# Altium footprint library PcbLib1.PcbLib: 9 footprints
Each footprint in its own frame and in the unit in brackets; x right, y up, seen from the top. Pads: shape width x height; smd on the part's side, far side on the other; paste and mask are expansions set on the pad; w line width, h text height; cw(c..) or ccw(c..) is an arc to the next point about the centre after c.
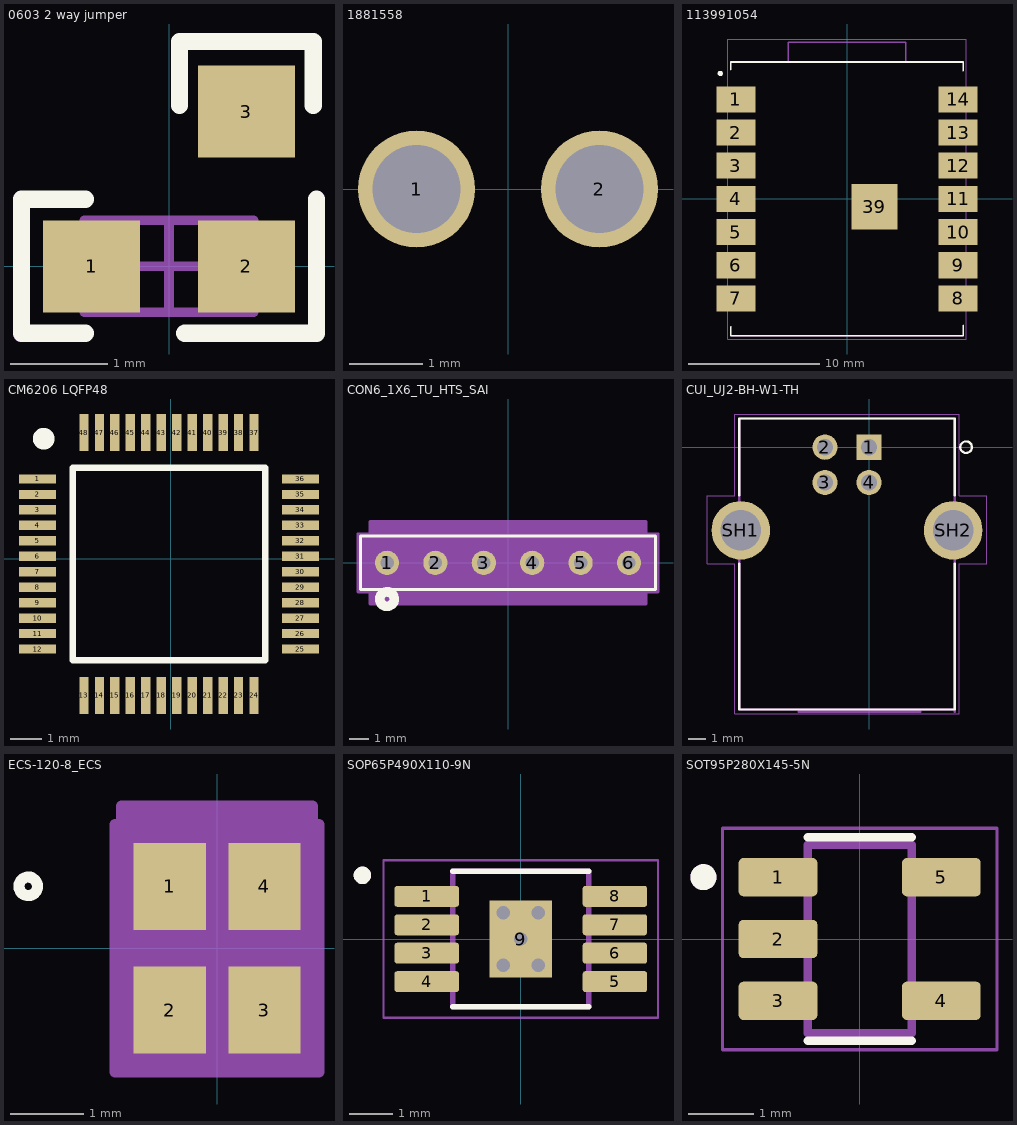
[diagram p0: the footprints below, top view; thin cyan lines are the x and y axes]

## 0603 2 way jumper [mm] "resistor 2 way jumper"
height 0.85
pads (3):
  rect 1x0.95 smd: 1(-0.8,0) 2(0.8,0) 3(0.8,1.6)
Top Overlay:
  lines w0.178: -0.864,-0.691 -1.524,-0.691 -1.524,0.693 -0.864,0.693 ; 0.107,1.664 0.107,2.324 1.491,2.324 1.491,1.664 ; 0.164,-0.691 1.524,-0.691 1.524,0.693
Mechanical 5:
  lines w0.1: -1.55,-0.725 -1.55,0.725 ; 1.55,-0.725 1.55,0.725
  text ".Designator" at -1.397,-0.381 h0.76
Mechanical 13:
  lines w0.1: -0.55,-0.475 -0.55,0.475 ; 0.55,-0.475 0.55,0.475 ; -0.875,-0.475 0.875,-0.475 0.875,0.475 -0.875,0.475 -0.875,-0.475
Mechanical 15:
  lines w0.1: -1.55,-0.725 -1.55,0.725 ; -0.475,0 0.475,0 ; 0,-0.475 0,0.475 ; 1.55,-0.725 1.55,0.725

## 1881558 [mm]
pads (2):
  round 1.6 hole 1.2: 1(-1.25,0) 2(1.25,0)
3D body "1881558.stp": height 10.11, standoff -3.49, extent -3.45,-4.2 3.45,3.9

## 113991054 [mm]
pads (15):
  rect 3x2 smd mask+0.05: 1(-8.5,7.62) 2(-8.5,5.08) 3(-8.5,2.54) 4(-8.5,0) 5(-8.5,-2.54) 6(-8.5,-5.08) 7(-8.5,-7.62) 8(8.5,-7.62) 9(8.5,-5.08) 10(8.5,-2.54) 11(8.5,0) 12(8.5,2.54) 13(8.5,5.08) 14(8.5,7.62)
  rect 3.5x3.5 smd: 39(2.1,-0.6)
Top Overlay:
  circle w0.2: c-9.7,9.6 r0.1
  lines w0.127: -8.9,-9.8 -8.89,-9.81 -8.89,-10.477 8.89,-10.477 8.89,-9.71 8.9,-9.7 ; -8.9,9.9 -8.89,9.91 -8.89,10.477 8.89,10.477 8.89,9.81 8.9,9.8
Mechanical 13:
  circle w0.2: c-9.5,7.683 r0.1
  lines w0.127: -8.89,-10.477 8.89,-10.477 ; -8.89,10.477 -4.5,10.477 ; 8.89,10.477 4.5,10.477 ; -4.5,10.477 4.5,10.477 ; -4.5,10.477 -4.5,11.987 4.5,11.987 4.5,10.477
Mechanical 15:
  lines w0.05: -9.14,-10.727 -9.14,12.237 9.14,12.237 9.14,-10.727 -9.14,-10.727

## CM6206 LQFP48 [mm]
pads (48):
  rect 1.2x0.3 smd: 1(-4.3,2.573) 2(-4.3,2.073) 3(-4.3,1.573) 4(-4.3,1.073) 5(-4.3,0.573) 6(-4.3,0.073) 7(-4.3,-0.427) 8(-4.3,-0.927) 9(-4.3,-1.427) 10(-4.3,-1.927) 11(-4.3,-2.427) 12(-4.3,-2.927) 25(4.2,-2.927) 26(4.2,-2.427) 27(4.2,-1.927) 28(4.2,-1.427) 29(4.2,-0.927) 30(4.2,-0.427) 31(4.2,0.073) 32(4.2,0.573) 33(4.2,1.073) 34(4.2,1.573) 35(4.2,2.073) 36(4.2,2.573)
  rect 0.3x1.2 smd: 13(-2.8,-4.427) 14(-2.3,-4.427) 15(-1.8,-4.427) 16(-1.3,-4.427) 17(-0.8,-4.427) 18(-0.3,-4.427) 19(0.2,-4.427) 20(0.7,-4.427) 21(1.2,-4.427) 22(1.7,-4.427) 23(2.2,-4.427) 24(2.7,-4.427) 37(2.7,4.073) 38(2.2,4.073) 39(1.7,4.073) 40(1.2,4.073) 41(0.7,4.073) 42(0.2,4.073) 43(-0.3,4.073) 44(-0.8,4.073) 45(-1.3,4.073) 46(-1.8,4.073) 47(-2.3,4.073) 48(-2.8,4.073)
Top Overlay:
  circle w0.5: c-4.1,3.873 r0.1
  lines w0.2: -3.165,-3.292 3.065,-3.292 3.065,2.938 -3.165,2.938 -3.165,-3.292

## CON6_1X6_TU_HTS_SAI [mil]
pads (6):
  round 50 / inner round 60 / far side round 50 hole 28 paste-99999 mask+0: 1(-250,0) 2(-150,0) 3(-50,0) 4(50,0) 5(150,0) 6(250,0)
Top Overlay:
  circle w20: c-250,-75 r15
  lines w6: -305,-55 -305,55 305,55 305,-55 -305,-55
Bottom Overlay:
  circle w20: c-250,-75 r15
Mechanical 13:
  circle w0: c-250,0 r10
  lines w1: -300,-50 -300,50 300,50 300,-50 -300,-50
Mechanical 15:
  region: 310,60 285,60 285,85 -285,85 -285,60 -310,60 -310,-60 -285,-60 -285,-85 285,-85 285,-60 310,-60
  lines w6: -310,-60 -285,-60 -285,-85 285,-85 285,-60 310,-60 310,60 285,60 285,85 -285,85 -285,60 -310,60 -310,-60

## CUI_UJ2-BH-W1-TH [mm]
pads (6):
  rect 1.428x1.428 / inner round 1.428 / far side rect 1.428x1.428 hole 0.92: 1(0,0)
  round 1.428 hole 0.92: 2(-2.5,0) 3(-2.5,-2) 4(0,-2)
  round 3.316 hole 2.3: SH1(-7.27,-4.71) SH2(4.77,-4.71)
Top Overlay:
  circle w0.127: c5.5,0 r0.329
  lines w0.127: -7.35,-6.61 -7.35,-14.87 4.85,-14.87 4.85,-6.61 ; -7.35,-2.74 -7.35,1.63 4.85,1.63 4.85,-2.74
Mechanical 5:
  lines w0.127: -4,-14.99 2.9,-14.99
  text "PCB EDGE" at -4,-14.685 h0.8
Mechanical 13:
  circle w0.4: c0,0 r0.2
  lines w0.127: 4.85,-14.99 4.85,-14.87 ; 4.85,-14.87 -7.35,-14.87 -7.35,1.63 4.85,1.63 4.85,-14.87
Mechanical 15:
  lines w0.05: -9.17,-6.61 -9.17,-2.74 -7.6,-2.74 -7.6,1.88 5.1,1.88 5.1,-2.74 6.67,-2.74 6.67,-6.62 5.1,-6.62 5.1,-15.12 -7.6,-15.12 -7.6,-6.61 -9.17,-6.61
3D body "Same_Sky_UJ2-BH-W1-TH.step": height 10.71, standoff -3.49, extent -8.7,-14.85 6.3,1.6

## ECS-120-8_ECS [mm]
pads (4):
  rect 0.991x1.194 smd paste+0 mask+0: 1(-0.65,0.85) 2(-0.65,-0.85) 3(0.65,-0.85) 4(0.65,0.85)
Top Overlay:
  circle w0.152: c-2.592,0.85 r0.127
Mechanical 13:
  circle w0: c-0.155,0.85 r0.076
  lines w0: -0.305,1.295 ccw(c0,1.295) 0.305,1.295
  lines w0.025: -1.054,-1.295 -1.054,1.295 1.054,1.295 1.054,-1.295 -1.054,-1.295
Mechanical 15:
  region: -1.308,-1.701 -1.399,-1.701 -1.399,1.701 -1.308,1.701 -1.308,1.955 1.308,1.955 1.308,1.701 1.399,1.701 1.399,-1.701 1.308,-1.701
  lines w0.152: -1.399,-1.701 -1.308,-1.701 1.308,-1.701 1.399,-1.701 1.399,1.701 1.308,1.701 1.308,1.955 -1.308,1.955 -1.308,1.701 -1.399,1.701 -1.399,-1.701
3D body "ECS-120-8_ECS.step": height 0.61, standoff 0, extent -1.054,-1.295 1.054,1.295

## SOP65P490X110-9N [mm]
pads (9):
  rrect25% 1.47x0.48 smd: 1(-2.15,0.975) 2(-2.15,0.325) 3(-2.15,-0.325) 4(-2.15,-0.975) 5(2.15,-0.975) 6(2.15,-0.325) 7(2.15,0.325) 8(2.15,0.975)
  rect 1.43x1.76 smd paste-2: 9(0,0)
via 0,0 diameter 0.55 hole 0.3
via -0.4,0.6 diameter 0.55 hole 0.3
via 0.4,0.6 diameter 0.55 hole 0.3
via 0.4,-0.6 diameter 0.55 hole 0.3
via -0.4,-0.6 diameter 0.55 hole 0.3
Top Overlay:
  circle w0.2: c-3.62,1.455 r0.1
  lines w0.127: -1.55,-1.55 1.55,-1.55 ; -1.55,1.55 1.55,1.55
Top Paste:
  region: 0.485,-0.725 -0.485,-0.725 -0.485,-0.075 0.485,-0.075
  region: 0.485,0.075 -0.485,0.075 -0.485,0.725 0.485,0.725
Mechanical 13:
  circle w0.2: c-3.62,1.455 r0.1
  lines w0.127: -1.55,-1.55 -1.55,1.55 1.55,1.55 1.55,-1.55 -1.55,-1.55
Mechanical 15:
  lines w0.05: -3.135,-1.8 -3.135,1.8 3.135,1.8 3.135,-1.8 -3.135,-1.8
3D body "step_temp.STEP": height 1.1, standoff 0, extent -2.45,-1.5 2.45,1.5

## SOT95P280X145-5N [mm]
height 1.45
pads (5):
  rrect25% 1.21x0.59 smd mask+0.05: 1(-1.255,0.95) 2(-1.255,0) 3(-1.255,-0.95) 4(1.255,-0.95) 5(1.255,0.95)
Top Overlay:
  circle w0.2: c-2.4,0.95 r0.1
  lines w0.127: -0.8,-1.565 0.8,-1.565 ; -0.8,1.565 0.8,1.565
Mechanical 13:
  circle w0.2: c-2.4,0.95 r0.1
  lines w0.127: -0.8,-1.45 0.8,-1.45 0.8,1.45 -0.8,1.45 -0.8,-1.45
Mechanical 15:
  lines w0.05: -2.11,-1.7 2.11,-1.7 2.11,1.7 -2.11,1.7 -2.11,-1.7
3D body "step_temp.STEP": height 1.45, standoff 0, extent -1.4,-1.45 1.4,1.45